# EAGLE library part IRFH6200 (library untitled)
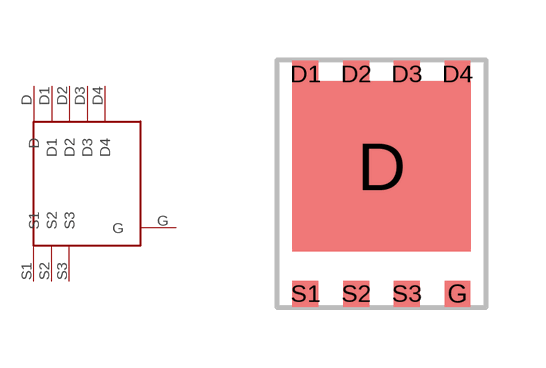
[diagram p9: symbol with the pads of PQFNFET; footprint PQFNFET]

Designator prefix -

## IRFH6200  [PQFNFET]
D  D
D1  D1
D2  D2
D3  D3
D4  D4
G  G
S1  S1
S2  S2
S3  S3

## Footprint PQFNFET (pad centres in mm)
smd 4.46 x 4.27: D 0,0.44
smd 0.65 x 0.65: D1 -1.9,2.75; D2 -0.63,2.75; D3 0.63,2.75; D4 1.9,2.75; G 1.9,-2.75; S1 -1.9,-2.75; S2 -0.63,-2.75; S3 0.63,-2.75